# Altium integrated library SSW-111-01-T-S.IntLib: 2 symbols
Pins are listed as number, name and electrical type; pins without a type are passive.

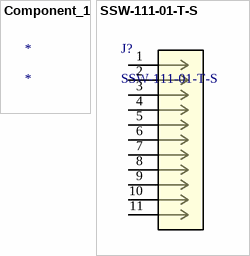
[diagram p0: symbols Component_1 to SSW-111-01-T-S]

## Component_1
designator *

## SSW-111-01-T-S
designator J?
No Description Available; Mfr_Name: Samtec Inc; Copyright: Copyright (C) 2022 Ultra Librarian. All rights reserved.; Manufacturer_Part_Number: SSW-111-01-T-S; RefDes: RefDes; Type: DEV
footprint CON11_1X11_TU_SSQ
pins: 1, 2, 3, 4, 5, 6, 7, 8, 9, 10, 11